# Altium footprint library SD-card holder.PcbLib: 1 footprints
Each footprint in its own frame and in the unit in brackets; x right, y up, seen from the top. Pads: shape width x height; smd on the part's side, far side on the other; paste and mask are expansions set on the pad; w line width, h text height; cw(c..) or ccw(c..) is an arc to the next point about the centre after c.
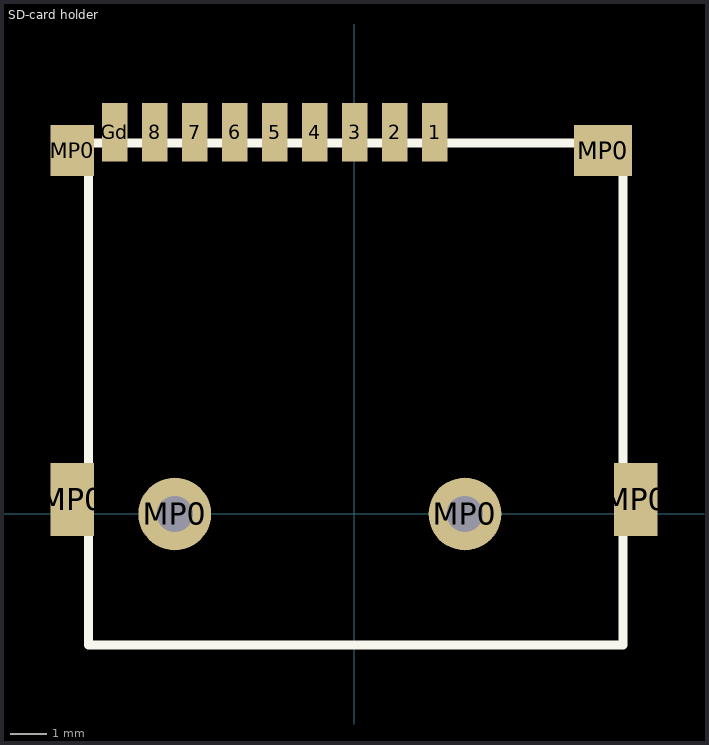
[diagram p0: the footprint, top view; thin cyan lines are the x and y axes]

## SD-card holder [mm] "SD-card"
pads (15):
  rect 0.7x1.6 smd: 1(2.225,10.5) 2(1.125,10.5) 3(0.025,10.5) 4(-1.075,10.5) 5(-2.175,10.5) 6(-3.275,10.5) 7(-4.375,10.5) 8(-5.475,10.5) Gd(-6.575,10.5)
  rect 1.2x2 smd: MP0(-7.75,0.4) MP0(7.75,0.4)
  rect 1.2x1.4 smd: MP0(-7.75,10)
  round 2 hole 1: MP0(-4.93,0) MP0(3.05,0)
  rect 1.6x1.4 smd: MP0(6.85,10)
Top Overlay:
  lines w0.254: -7.3,-3.6 -7.3,10.2 7.4,10.2 7.4,-3.6 -7.3,-3.6
3D body "SD-card holder.STEP": height 1.93, standoff -0.52, extent -8,-3.975 8,11.275